# Altium footprint library PCB1.PcbLib: 18 footprints (part 1 of 2)
Each footprint in its own frame and in the unit in brackets; x right, y up, seen from the top. Pads: shape width x height; smd on the part's side, far side on the other; paste and mask are expansions set on the pad; w line width, h text height; cw(c..) or ccw(c..) is an arc to the next point about the centre after c.
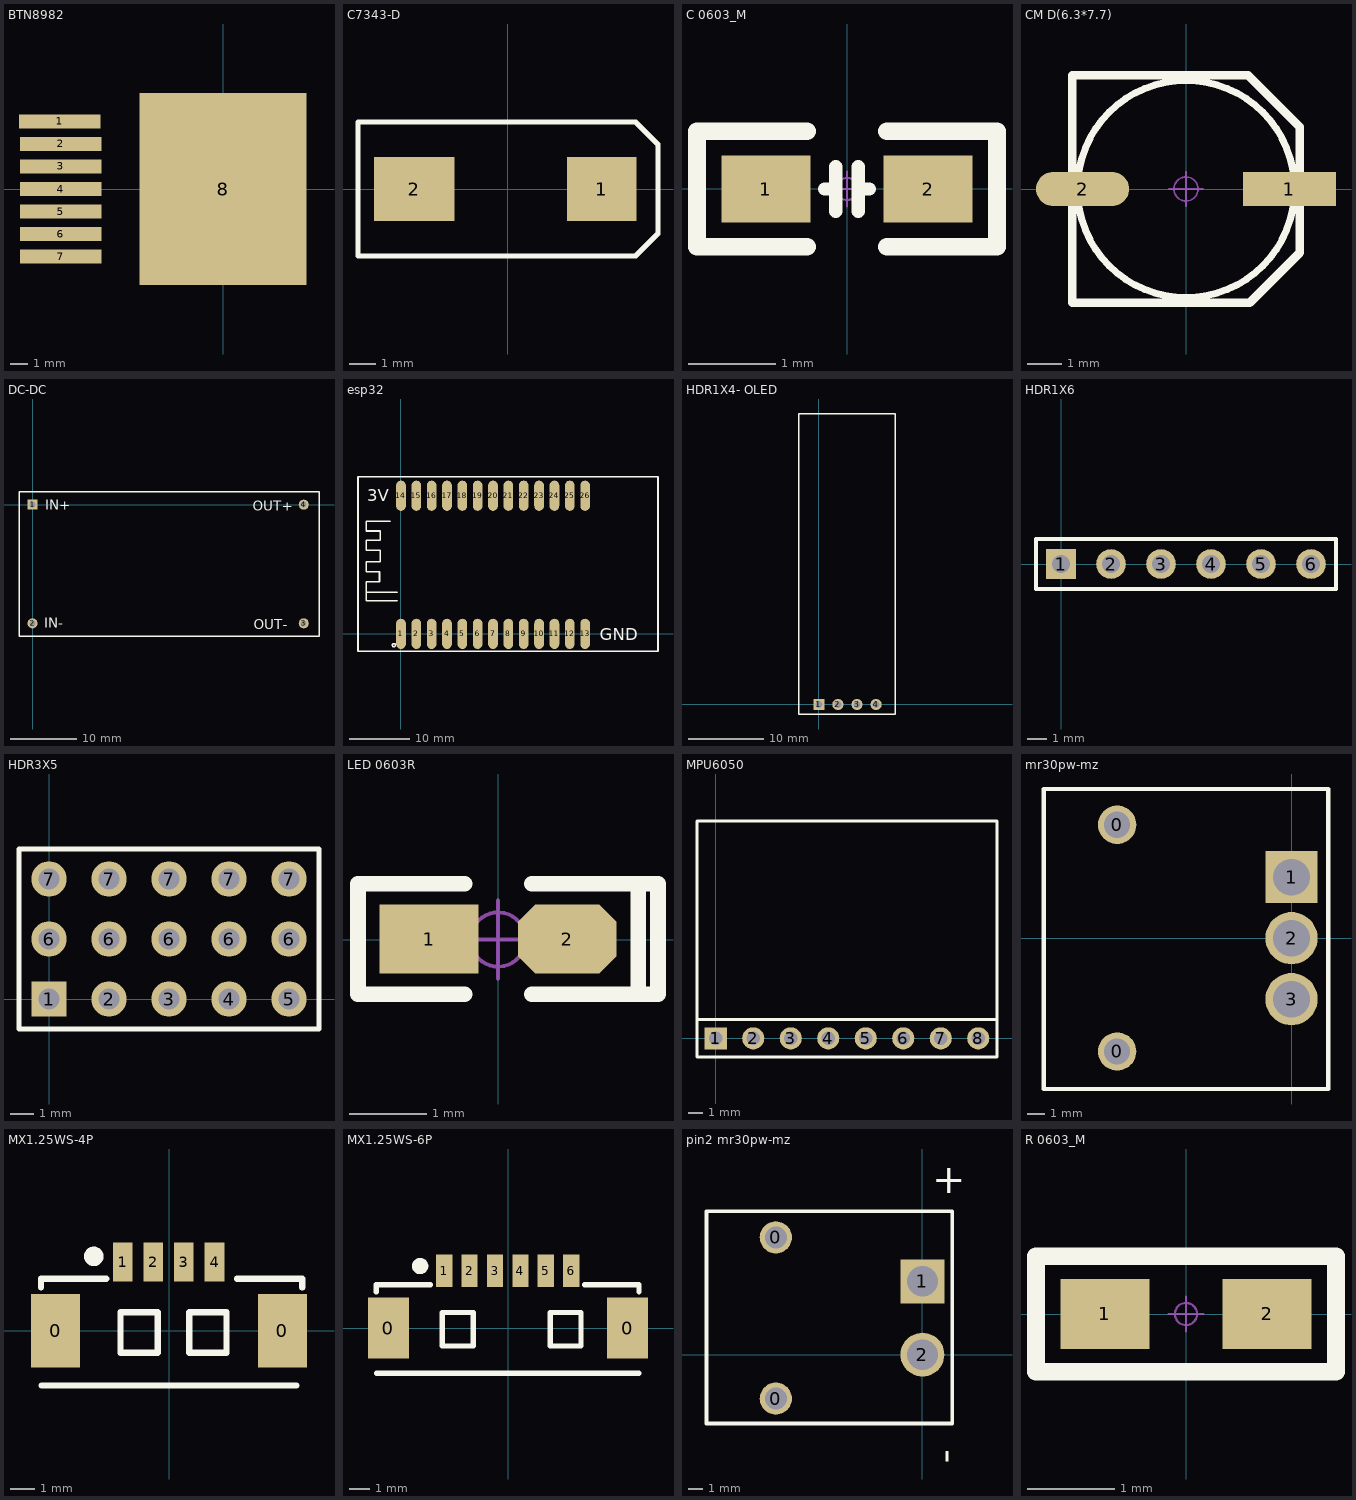
[diagram p0: the footprints below, top view; thin cyan lines are the x and y axes]

## BTN8982 [mm] "Infineon BTN8982TA"
pads (8):
  rect 4.6x0.8 smd: 1(-9.2,3.81) 2(-9.15,2.54) 3(-9.15,1.27) 4(-9.15,0) 5(-9.15,-1.27) 6(-9.15,-2.54) 7(-9.15,-3.81)
  rect 9.4x10.8 smd: 8(0,0)
3D body "btn8982.STEP": height 4.4, standoff 0, extent -10.768,-4.968 4.182,5.032

## C7343-D [mm]
pads (2):
  rect 2.6x2.4 smd: 1(3.5,0)
  rect 3x2.4 smd: 2(-3.5,0)
Top Overlay:
  lines w0.2: -5.6,-2.5 4.767,-2.5 5.6,-1.667 5.6,1.667 4.767,2.5 -5.6,2.5 -5.6,0 -5.6,-2.5
3D body "User Library-CAP_TANT_7343-31.STEP": height 3.1, standoff 0, extent -3.8,-2.3 3.8,2.3

## C 0603_M [mil] "无极性贴片电容"
height 532.68
pads (2):
  rect 40x30 smd: 1(-36.5,0) 2(36.5,0)
Top Overlay:
  lines w6: -10,0 -5,0 ; -5,-10 -5,10 ; 5,-10 5,10 ; 5,0 10,0
  lines w8: -18,-26 -67.5,-26 -67.5,26 -18,26 ; 18,-26 67.5,-26 67.5,26 18,26
Mechanical 15:
  circle w1: c0,0 r5
  lines w1: -7.87,0 7.87,0 ; 0,-7.87 0,7.87
3D body "C 0603.STEP": height 31.89, standoff -0.39, extent -31.5,-16.14 31.5,16.14

## CM D(6.3*7.7) [mm] "贴片电解电容，直径6.3mm，高7.7mm"
pads (2):
  rect 2.7x1 smd: 1(3,0)
  oval 2.7x1 smd: 2(-3,0)
Top Overlay:
  circle w0.2: c0,0 r3.15
  lines w0.254: -3.3,-3.3 -3.3,3.3 1.8,3.3 3.3,1.8 3.3,-1.85 1.85,-3.3 -3.3,-3.3
Mechanical 15:
  circle w0.05: c0,0 r0.35
  lines w0.05: -0.5,0 0.5,0 ; 0,-0.5 0,0.5
3D body "CM D(6.3X7.7).STEP": height 7.7, standoff -0.01, extent -3.5,-3.3 3.5,3.3

## DC-DC [mm] "Connector; Header; 6 Position"
pads (4):
  rect 1.5x1.5 hole 0.9: 1(0,0)
  round 1.5 hole 0.9: 2(0,-17.78) 3(40.64,-17.78) 4(40.64,0)
Top Overlay:
  lines w0.2: -2.032,-19.685 42.926,-19.685 42.926,1.905 -2.032,1.905 -2.032,-19.685
  text "OUT+" at 33.02,-0.889 h1.5
  text "OUT-" at 33.147,-18.669 h1.5
  text "IN-" at 1.778,-18.415 h1.5
  text "IN+" at 1.905,-0.762 h1.5

## esp32 [mm]
pads (26):
  oval 1.6x5 smd: 1(0,0) 2(2.54,0) 3(5.08,0) 4(7.62,0) 5(10.16,0) 6(12.7,0) 7(15.24,0) 8(17.78,0) 9(20.32,0) 10(22.86,0) 11(25.4,0) 12(27.94,0) 13(30.48,0) 14(0,22.86) 15(2.54,22.86) 16(5.08,22.86) 17(7.62,22.86) 18(10.16,22.86) 19(12.7,22.86) 20(15.24,22.86) 21(17.78,22.86) 22(20.32,22.86) 23(22.86,22.86) 24(25.4,22.86) 25(27.94,22.86) 26(30.48,22.86)
Top Overlay:
  circle w0.254: c-1.168,-1.88 r0.259
  lines w0.254: -1.778,18.669 -5.715,18.669 -5.715,17.018 -3.429,17.018 -3.429,15.494 -5.715,15.494 -5.715,13.843 -3.683,13.843 -3.429,13.843 -3.429,11.938 -5.715,11.938 -5.715,10.287 -3.556,10.287 -3.556,8.636 -5.715,8.636 -5.715,6.858 ; -0.635,5.461 -5.715,5.461 -5.715,6.858 ; -0.635,6.858 -5.715,6.858 ; 42.545,-2.921 -7.112,-2.921 -7.112,25.781 -7.112,26.035 42.545,26.035 42.545,-2.794
  text "3V" at -5.602,21.957 h2
  text "GND" at 32.879,-1.03 h2
3D body: height 0, standoff 0, extent -1.427,-2.138 -0.91,-1.621
3D body: height 0, standoff 0, extent -5.716,5.46 -0.634,18.67
3D body: height 0, standoff 0, extent -7.113,-2.922 42.546,26.036
3D body: height 0, standoff 0, extent -5.716,5.46 -0.634,18.67
3D body: height 0, standoff 0, extent -1.427,-2.138 -0.91,-1.621
3D body: height 0, standoff 0, extent -7.113,-2.922 42.546,26.036
3D body: height 0, standoff 0, extent -5.716,5.46 -0.634,18.67
3D body "61000411921.x_t": height 7.55, standoff 0.05, extent -1.551,-2.054 9.109,1.996
3D body "61000411921.x_t": height 7.55, standoff 0.05, extent 21.34,20.835 32,24.885
3D body "61000411921.x_t": height 7.55, standoff 0.05, extent 18.8,20.835 29.46,24.885
3D body "61000411921.x_t": height 7.55, standoff 0.05, extent -1.53,20.835 9.13,24.885
3D body "61000411921.x_t": height 7.55, standoff 0.05, extent 8.67,20.835 19.33,24.885
3D body "61000411921.x_t": height 7.55, standoff 0.05, extent 8.67,-2.025 19.33,2.025
3D body "61000411921.x_t": height 7.55, standoff 0.05, extent 18.8,-2.025 29.46,2.025
3D body "61000411921.x_t": height 7.55, standoff 0.05, extent 21.34,-2.025 32,2.025

## HDR1X4- OLED [mm] "Connector; Header; 6 Position"
pads (4):
  rect 1.5x1.5 hole 0.9: 1(0,0)
  round 1.5 hole 0.9: 2(2.54,0) 3(5.08,0) 4(7.62,0)
Top Overlay:
  lines w0.2: -2.667,-1.27 -2.667,38.73 10.16,38.73 10.16,-1.27 -2.667,-1.27

## HDR1X6 [mm] "Connector; Header; 6 Position"
pads (6):
  rect 1.5x1.5 hole 0.9: 1(0,0)
  round 1.5 hole 0.9: 2(2.54,0) 3(5.08,0) 4(7.62,0) 5(10.16,0) 6(12.7,0)
Top Overlay:
  lines w0.2: -1.27,-1.27 13.97,-1.27 13.97,1.27 -1.27,1.27 -1.27,-1.27

## HDR3X5 [mm] "Connector; Header; 6 Position"
pads (15):
  rect 1.5x1.5 hole 0.9: 1(0,0)
  round 1.5 hole 0.9: 2(2.54,0) 3(5.08,0) 4(7.62,0) 5(10.16,0) 6(0,2.54) 6(2.54,2.54) 6(5.08,2.54) 6(7.62,2.54) 6(10.16,2.54) 7(0,5.08) 7(2.54,5.08) 7(5.08,5.08) 7(7.62,5.08) 7(10.16,5.08)
Top Overlay:
  lines w0.2: -1.27,-1.27 -1.27,1.27 -1.27,6.35 11.43,6.35 11.43,-1.27 -1.27,-1.27

## LED 0603R [mil] "红色0603LED"
height 532.68
pads (2):
  rect 50x35 smd: 1(-35,0.26)
  oct 50x35 smd: 2(35,0.26)
Top Overlay:
  lines w8: -17,-27.74 -71,-27.74 -71,-25.74 -71,28.26 -70,28.26 -17,28.26 ; 17,-27.74 70,-27.74 ; 17,28.26 71,28.26 81,28.26 81,-27.74 71,-27.74 71,26.26
Mechanical 15:
  circle w1.97: c0,0 r13.78
  lines w1.97: -19.68,0 19.69,0 ; 0,-19.68 0,19.69
3D body "LED 0603-R.STEP": height 18.34, standoff -0.16, extent -31.49,-15.78 31.5,15.79
3D body "LED 0603玻璃罩.": height 23.82, standoff 8.07, extent -23.58,-15.79 23.58,15.79

## MPU6050 [mm] "Connector; Header; 6 Position"
pads (8):
  rect 1.5x1.5 hole 0.9: 1(0,0)
  round 1.5 hole 0.9: 2(2.54,0) 3(5.08,0) 4(7.62,0) 5(10.16,0) 6(12.7,0) 7(15.24,0) 8(17.78,0)
Top Overlay:
  lines w0.2: -1.27,-1.27 -1.27,14.73 19.05,14.73 19.05,-1.27 ; -1.27,-1.27 19.05,-1.27 ; -1.27,-1.27 -1.27,1.27 13.97,1.27 19.05,1.27 19.05,0 19.05,-1.27

## mr30pw-mz [mm]
pads (5):
  round 2.2 hole 1.5: 0(-10,-6.5) 0(-10,6.5)
  rect 3x3 hole 2.1: 1(0,3.5)
  round 3 hole 2.1: 2(0,0) 3(0,-3.5)
Top Overlay:
  lines w0.254: -14.2,-8.65 2.1,-8.65 2.1,8.55 -13.85,8.55 -14.2,8.55 -14.2,-8.65
3D body "User Library-MR30PW-M.STEP": height 5.2, standoff -1.76, extent -13.589,-8.005 0.9,8.005

## MX1.25WS-4P [mm]
pads (6):
  rect 2x3 smd: 0(-4.632,0) 0(4.632,0)
  rect 0.8x1.6 smd: 1(-1.889,2.811) 2(-0.639,2.811) 3(0.611,2.811) 4(1.861,2.811)
Top Overlay:
  circle w0.4: c-3.074,3.048 r0.2
  lines w0.254: -5.233,1.778 -5.233,2.134 -2.566,2.134 ; -5.206,-2.228 5.201,-2.228 ; 2.782,2.134 5.449,2.134 5.449,1.778 ; -1.982,-0.889 -0.458,-0.889 -0.458,0.762 -1.982,0.762 -1.982,-0.889 ; 0.826,-0.889 0.826,0.762 2.35,0.762 2.35,-0.889 0.826,-0.889
3D body "MX 1.25-WS-4P.STEP": height 3.4, standoff 0, extent -5.146,-1.96 5.004,3.23

## MX1.25WS-6P [mm]
pads (8):
  rect 2x3 smd: 0(-5.882,0) 0(5.882,0)
  rect 0.8x1.6 smd: 1(-3.139,2.811) 2(-1.889,2.811) 3(-0.639,2.811) 4(0.611,2.811) 5(1.861,2.811) 6(3.111,2.811)
Top Overlay:
  circle w0.4: c-4.324,3.048 r0.2
  lines w0.254: -6.483,1.778 -6.483,2.134 -3.816,2.134 ; -6.456,-2.228 6.451,-2.228 ; 3.778,2.134 6.445,2.134 6.445,1.778 ; -3.232,-0.889 -3.232,0.762 -1.708,0.762 -1.708,-0.889 -3.232,-0.889 ; 2.076,-0.889 2.076,0.762 3.6,0.762 3.6,-0.889 2.076,-0.889
3D body "MX 1.25-WS-6P.STEP": height 3.4, standoff 0, extent -6.249,-2.21 6.401,2.98

## pin2 mr30pw-mz [mm]
pads (4):
  round 2.2 hole 1.5: 0(-10,-3) 0(-10,8)
  rect 3x3 hole 2.1: 1(0,5)
  round 3 hole 2.1: 2(0,0)
Top Overlay:
  lines w0.254: -14.732,-4.699 -14.732,9.779 -7.62,9.779 2.032,9.779 2.032,-4.699 -14.732,-4.699
  text "-" at 2.444,-7.459 h2
  text "+" at 0.654,11.004 h2
3D body "User Library-XT30- curved.STEP": height 5.1, standoff -2, extent -13.998,-4.11 1.008,9.19

## R 0603_M [mil] "1/10W贴片电阻"
height 532.68
pads (2):
  rect 40x31.5 smd: 1(-36.5,0) 2(36.5,0)
Top Overlay:
  lines w8: -67.5,-26 -67.5,26 67.5,26 67.5,-26 -67.5,-26
Mechanical 15:
  circle w1: c0,0 r5
  lines w1: -7.88,0 7.87,0 ; 0,-7.87 0,7.87
3D body "R 0603.STEP": height 15.79, standoff -0.13, extent -31.5,-15.75 31.5,15.75